# Altium footprint library XT-Connectors.PcbLib: 4 footprints
Each footprint in its own frame and in the unit in brackets; x right, y up, seen from the top. Pads: shape width x height; smd on the part's side, far side on the other; paste and mask are expansions set on the pad; w line width, h text height; cw(c..) or ccw(c..) is an arc to the next point about the centre after c.
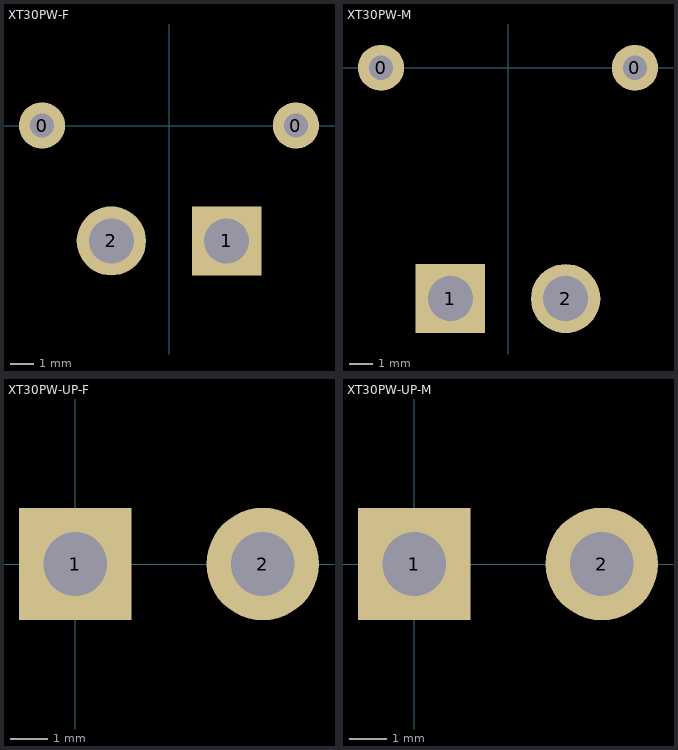
[diagram p0: the footprints below, top view; thin cyan lines are the x and y axes]

## XT30PW-F [mm] "XT30 female angled connector rated up to 15A and 30A peak at 500V"
pads (4):
  round 2 hole 1.05: 0(-5.5,0) 0(5.5,0)
  rect 3x3 hole 1.95: 1(2.5,-5)
  round 3 hole 1.95: 2(-2.5,-5)
3D body "XT30PW-F--3DModel-STEP-510211.STEP": height 5, standoff -2, extent -6.65,-6 6.65,8.9

## XT30PW-M [mm] "XT30 male angled connector rated up to 15A and 30A peak at 500V"
pads (4):
  round 2 hole 1.05: 0(-5.5,0) 0(5.5,0)
  rect 3x3 hole 1.95: 1(-2.5,-10)
  round 3 hole 1.95: 2(2.5,-10)
3D body "XT30PW-M--3DModel-STEP-1.STEP": height 5, standoff -2, extent -6.65,-11 6.65,2.95

## XT30PW-UP-F [mm] "XT30 female connector rated up to 15A and 30A peak at 500V"
pads (2):
  rect 3x3 hole 1.7: 1(0,0)
  round 3 hole 1.7: 2(5,0)
3D body "User Library-XT30UPB-F-1.step": height 9.4, standoff -2, extent -2.6,-2.6 7.6,2.6

## XT30PW-UP-M [mm] "XT30 male connector rated up to 15A and 30A peak at 500V"
pads (2):
  rect 3x3 hole 1.7: 1(0,0)
  round 3 hole 1.7: 2(5,0)
3D body "User Library-xt30upb-m.STEP": height 9.4, standoff -2, extent -2.6,-2.395 7.6,2.805